# Altium footprint library K7.PcbLib: 26 footprints (part 2 of 2)
Each footprint in its own frame and in the unit in brackets; x right, y up, seen from the top. Pads: shape width x height; smd on the part's side, far side on the other; paste and mask are expansions set on the pad; w line width, h text height; cw(c..) or ccw(c..) is an arc to the next point about the centre after c.
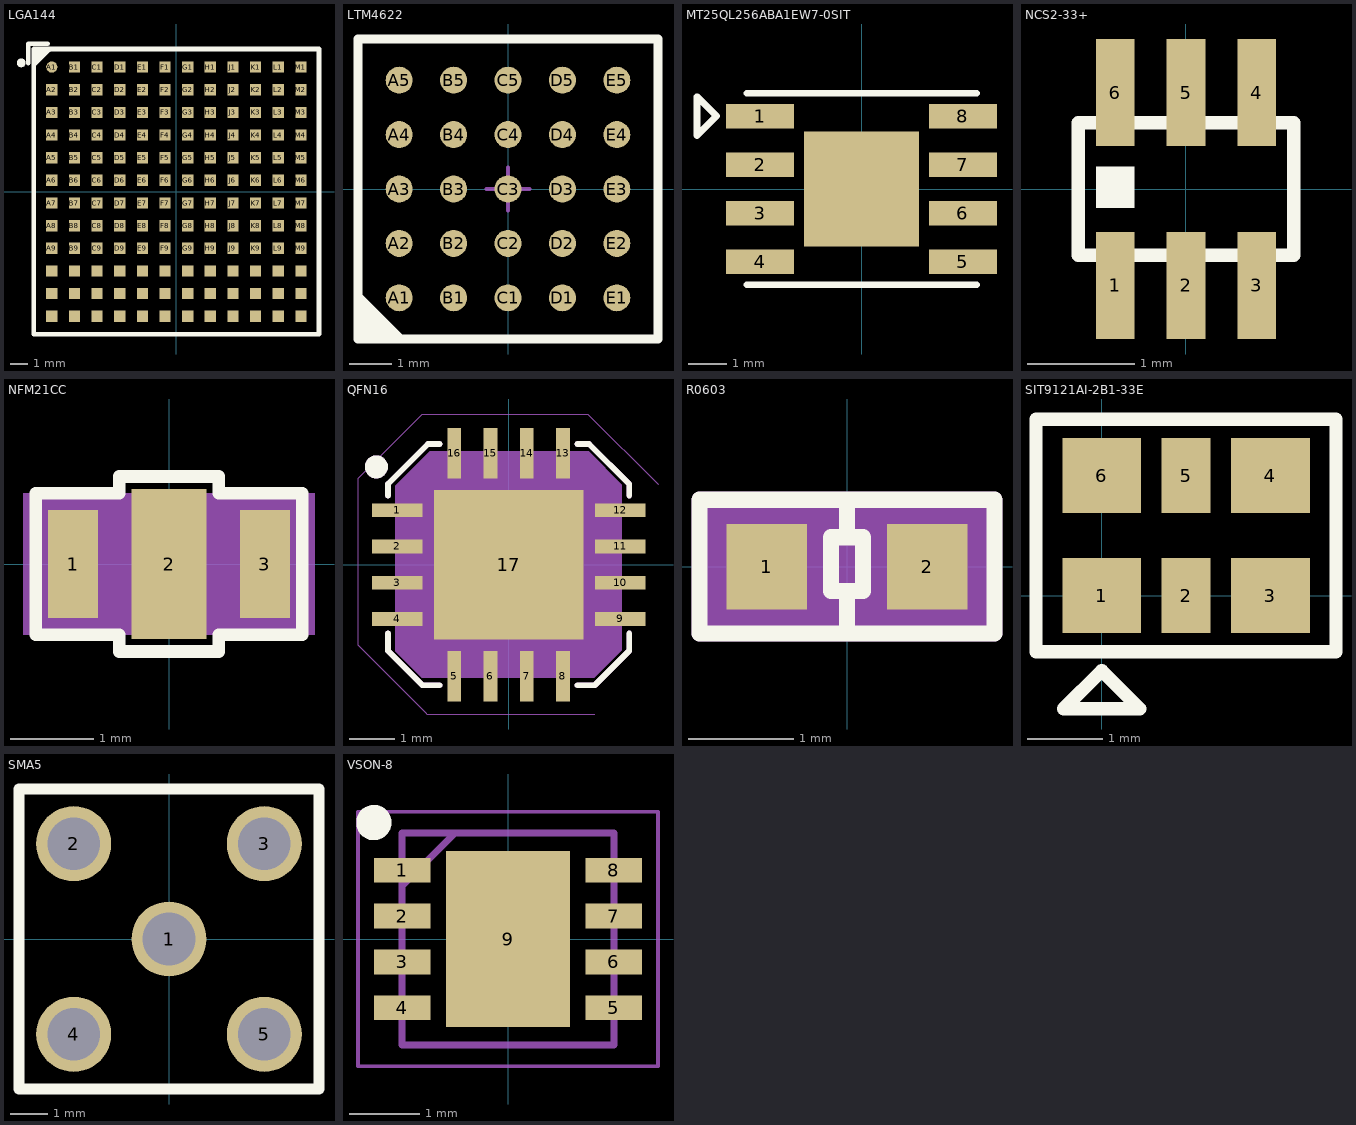
[diagram p1: the footprints below, top view; thin cyan lines are the x and y axes]

## LGA144 [mm] "LTM4630"
pads (144):
  round 0.63 smd: A1(-6.985,6.985)
  rect 0.63x0.63 smd: A2(-6.985,5.715) A3(-6.985,4.445) A4(-6.985,3.175) A5(-6.985,1.905) A6(-6.985,0.635) A7(-6.985,-0.635) A8(-6.985,-1.905) A9(-6.985,-3.175) A10(-6.985,-4.445) A11(-6.985,-5.715) A12(-6.985,-6.985) B1(-5.715,6.985) B2(-5.715,5.715) B3(-5.715,4.445) B4(-5.715,3.175) B5(-5.715,1.905) B6(-5.715,0.635) B7(-5.715,-0.635) B8(-5.715,-1.905) B9(-5.715,-3.175) B10(-5.715,-4.445) B11(-5.715,-5.715) B12(-5.715,-6.985) C1(-4.445,6.985) C2(-4.445,5.715) C3(-4.445,4.445) C4(-4.445,3.175) C5(-4.445,1.905) C6(-4.445,0.635) C7(-4.445,-0.635) C8(-4.445,-1.905) C9(-4.445,-3.175) C10(-4.445,-4.445) C11(-4.445,-5.715) C12(-4.445,-6.985) D1(-3.175,6.985) D2(-3.175,5.715) D3(-3.175,4.445) D4(-3.175,3.175) D5(-3.175,1.905) D6(-3.175,0.635) D7(-3.175,-0.635) D8(-3.175,-1.905) D9(-3.175,-3.175) D10(-3.175,-4.445) D11(-3.175,-5.715) D12(-3.175,-6.985) E1(-1.905,6.985) E2(-1.905,5.715) E3(-1.905,4.445) E4(-1.905,3.175) E5(-1.905,1.905) E6(-1.905,0.635) E7(-1.905,-0.635) E8(-1.905,-1.905) E9(-1.905,-3.175) E10(-1.905,-4.445) E11(-1.905,-5.715) E12(-1.905,-6.985) F1(-0.635,6.985) F2(-0.635,5.715) F3(-0.635,4.445) F4(-0.635,3.175) F5(-0.635,1.905) F6(-0.635,0.635) F7(-0.635,-0.635) F8(-0.635,-1.905) F9(-0.635,-3.175) F10(-0.635,-4.445) F11(-0.635,-5.715) F12(-0.635,-6.985) G1(0.635,6.985) G2(0.635,5.715) G3(0.635,4.445) G4(0.635,3.175) G5(0.635,1.905) G6(0.635,0.635) G7(0.635,-0.635) G8(0.635,-1.905) G9(0.635,-3.175) G10(0.635,-4.445) G11(0.635,-5.715) G12(0.635,-6.985) H1(1.905,6.985) H2(1.905,5.715) H3(1.905,4.445) H4(1.905,3.175) H5(1.905,1.905) H6(1.905,0.635) H7(1.905,-0.635) H8(1.905,-1.905) H9(1.905,-3.175) H10(1.905,-4.445) H11(1.905,-5.715) H12(1.905,-6.985) J1(3.175,6.985) J2(3.175,5.715) J3(3.175,4.445) J4(3.175,3.175) J5(3.175,1.905) J6(3.175,0.635) J7(3.175,-0.635) J8(3.175,-1.905) J9(3.175,-3.175) J10(3.175,-4.445) J11(3.175,-5.715) J12(3.175,-6.985) K1(4.445,6.985) K2(4.445,5.715) K3(4.445,4.445) K4(4.445,3.175) K5(4.445,1.905) K6(4.445,0.635) K7(4.445,-0.635) K8(4.445,-1.905) K9(4.445,-3.175) K10(4.445,-4.445) K11(4.445,-5.715) K12(4.445,-6.985) L1(5.715,6.985) L2(5.715,5.715) L3(5.715,4.445) L4(5.715,3.175) L5(5.715,1.905) L6(5.715,0.635) L7(5.715,-0.635) L8(5.715,-1.905) L9(5.715,-3.175) L10(5.715,-4.445) L11(5.715,-5.715) L12(5.715,-6.985) M1(6.985,6.985) M2(6.985,5.715) M3(6.985,4.445) M4(6.985,3.175) M5(6.985,1.905) M6(6.985,0.635) M7(6.985,-0.635) M8(6.985,-1.905) M9(6.985,-3.175) M10(6.985,-4.445) M11(6.985,-5.715) M12(6.985,-6.985)
Top Overlay:
  lines w0.249: -8.7,7.1 cw(c-8.699,7.225) -8.697,7.1
  lines w0.254: -8.3,7.2 -8.3,8.3 -7.2,8.3 ; -8,7.1 -7.165,7.935 -7.165,8 ; -8,7.401 -7.401,8 -7.33,8 ; -8,7.6 -7.699,7.901 -7.699,8 ; -8,-8 -8,8 8,8 8,-8 -8,-8

## LTM4622 [mm]
height 1.55
pads (25):
  round 0.63 smd: A1(-2.54,-2.54) A2(-2.54,-1.27) A3(-2.54,0) A4(-2.54,1.27) A5(-2.54,2.54) B1(-1.27,-2.54) B2(-1.27,-1.27) B3(-1.27,0) B4(-1.27,1.27) B5(-1.27,2.54) C1(0,-2.54) C2(0,-1.27) C3(0,0) C4(0,1.27) C5(0,2.54) D1(1.27,-2.54) D2(1.27,-1.27) D3(1.27,0) D4(1.27,1.27) D5(1.27,2.54) E1(2.54,-2.54) E2(2.54,-1.27) E3(2.54,0) E4(2.54,1.27) E5(2.54,2.54)
Top Overlay:
  region: -3.5,-2.5 -2.5,-3.5 -3.5,-3.5
  lines w0.2: -3.5,-2.5 -2.5,-3.5 ; -3.5,-3.5 3.5,-3.5 3.5,3.5 -3.5,3.5 -3.5,-3.5
Mechanical 13:
  lines w0.1: -3.5,-3.5 3.5,-3.5 3.5,3.5 -3.5,3.5 -3.5,-3.5
Mechanical 15:
  lines w0.1: -0.5,0 0.5,0 ; 0,-0.5 0,0.5
3D body: height 1.55, standoff 0, extent -3.5,-3.5 3.5,3.5

## MT25QL256ABA1EW7-0SIT [mm]
pads (9):
  rect 1.778x0.635 smd: 1(-2.65,1.905) 2(-2.65,0.635) 3(-2.65,-0.635) 4(-2.65,-1.905) 5(2.65,-1.905) 6(2.65,-0.635) 7(2.65,0.635) 8(2.65,1.905)
  rect 3x3 smd: ""(0,0)
Top Overlay:
  lines w0.178: -3,-2.5 3,-2.5 ; -3,2.5 3,2.5 ; -4.301,1.397 -4.301,2.413 -3.793,1.905 -4.301,1.397

## NCS2-33+ [mm]
pads (6):
  rect 0.36x1 smd: 1(-0.66,-0.9) 2(0,-0.9) 3(0.66,-0.9) 4(0.66,0.9) 5(0,0.9) 6(-0.66,0.9)
Top Overlay:
  rectangle: -0.84,-0.177 -0.48,0.21
  lines w0.127: -1.005,-0.62 -1.005,0.62 1.005,0.62 1.005,-0.62 -1.005,-0.62

## NFM21CC [mm] "NFM21CC"
pads (3):
  rect 0.6x1.3 smd: 1(-1.15,0) 3(1.15,0)
  rect 0.9x1.8 smd: 2(0,0)
Top Overlay:
  lines w0.15: -1.6,-0.85 -0.6,-0.85 -0.6,-1.05 0.6,-1.05 0.6,-0.85 1.6,-0.85 1.6,0.85 0.6,0.85 0.6,1.05 -0.6,1.05 -0.6,0.85 -1.6,0.85 -1.6,-0.85
Mechanical 14:
  text "2" at 0,-0.203 h0.25
  text "1" at -1.15,-0.203 h0.25
  text "3" at 1.15,-0.203 h0.25
Mechanical 16:
  region: -1.75,0.85 -1.75,-0.85 1.75,-0.85 1.75,0.85
3D body: height 3.81, standoff 0, extent -1.75,-0.85 1.75,0.85

## QFN16 [mil] "QFN16"
pads (17):
  rect 44x12 smd: 1(-97,47.24) 2(-97,15.75) 3(-97,-15.75) 4(-97,-47.24) 9(97,-47.24) 10(97,-15.75) 11(97,15.75) 12(97,47.24)
  rect 12x44 smd: 5(-47.24,-97) 6(-15.75,-97) 7(15.75,-97) 8(47.24,-97) 13(47.24,97) 14(15.75,97) 15(-15.75,97) 16(-47.24,97)
  rect 130x130 smd: 17(0,0)
Top Overlay:
  circle w10: c-115,85 r5
  lines w5: -105,-60 -105,-75 -75,-105 -60,-105 ; -105,60 -105,70 -70,105 -60,105 ; 60,-105 75,-105 105,-75 105,-60 ; 60,105 70,105 105,70 105,60
Mechanical 5:
  circle w10: c-115,85 r5
  lines w5: -105,-60 -105,-75 -75,-105 -60,-105 ; -105,60 -105,70 -70,105 -60,105 ; 60,-105 75,-105 105,-75 105,-60 ; 60,105 70,105 105,70 105,60
Mechanical 14:
  text "7" at 47.75,-97 h80
  text "6" at 16.25,-97 h80
  text "5" at -15.24,-97 h80
  text "4" at -65,-47.24 h80
  text "3" at -65,-15.75 h80
  text "2" at -65,15.75 h80
  text "1" at -65,47.24 h80
Mechanical 16:
  region: 98.43,-74.58 75,-98 74.58,-98.43 -75.58,-98.43 -76,-98 -98.43,-75.58 -98.43,68.58 -98,69 -68.58,98.43 69.58,98.43 70,98 98.43,69.58
  lines w1: 75,-130 -71,-130 -71.49,-129.48 -131,-70 -131,75 -75,131 -65,131 69,131 130,70
Mechanical 17:
  text ".Designator" at 6,-1.67 h5
3D body: height 150, standoff 0, extent -98.43,-98.43 98.43,98.43

## R0603 [mil] "R0603"
pads (2):
  rect 30x32 smd: 1(-30,0) 2(30,0)
Top Overlay:
  lines w6: 0,-25 0,-10 ; 0,24 0,11 ; 0,11 6,11 6,-9 -6,-9 -6,11 0,11 ; -55,-25 -55,25 55,25 55,-25 -55,-25
Mechanical 14:
  text "2" at 20,0 h25
  text "1" at -40,0 h25
Mechanical 16:
  region: -56,-25 -56,27 56,27 56,-25
  lines w6: 0,-25 0,-10 ; 0,24 0,11 ; 0,11 6,11 6,-9 -6,-9 -6,11 0,11 ; -55,-25 -55,25 55,25 55,-25 -55,-25
Mechanical 20:
  text "SR0603" at -66,209 h25
  text "RESISTOR_R0603_1.21K/1%" at -241,148 h25
  text "1.21K/1%" at 59,148 h25
3D body: height 150, standoff 0, extent -56,-25 56,27

## SIT9121AI-2B1-33E [mm]
pads (6):
  rect 1.05x1 smd: 1(0,0) 3(2.25,0) 4(2.25,1.6) 6(0,1.6)
  rect 0.65x1 smd: 2(1.125,0) 5(1.125,1.6)
Top Overlay:
  lines w0.178: -0.875,-0.75 3.125,-0.75 3.125,2.35 -0.875,2.35 -0.875,-0.75 ; -0.508,-1.508 0.508,-1.508 0,-1 -0.508,-1.508

## SMA5 [mm]
pads (5):
  round 2 hole 1.4: 1(0,0) 2(-2.54,2.54) 3(2.54,2.54) 4(-2.54,-2.54) 5(2.54,-2.54)
Top Overlay:
  lines w0.305: -4,-4 -4,4 4,4 4,-4 -4,-4

## VSON-8 [mm]
pads (9):
  rect 0.8x0.35 smd: 1(-1.5,0.975) 2(-1.5,0.325) 3(-1.5,-0.325) 4(-1.5,-0.975) 5(1.5,-0.975) 6(1.5,-0.325) 7(1.5,0.325) 8(1.5,0.975)
  rect 1.75x2.5 smd: 9(0,0)
Top Overlay:
  circle w0.25: c-1.9,1.65 r0.125
Mechanical 13:
  lines w0.1: -1.5,0.75 -0.75,1.5 ; -1.5,-1.5 -1.5,1.5 1.5,1.5 1.5,-1.5 -1.5,-1.5
Mechanical 15:
  lines w0.05: -2.125,-1.8 -2.125,1.8 2.125,1.8 2.125,-1.8 -2.125,-1.8
3D body "TPS74613PQWDRBRQ1.stp": height 1, standoff 0, extent -1.5,-1.5 1.5,1.5